# EAGLE library part 19428-0014 (library 19428-0014)
Molex MX150L Series, Series Number 19429, 5.84mm Pitch 10 Way 2 Row Straight PCB Header, Solder Termination, 18A Source: Datasheet <https://www.molex.com/pdm_docs/sd/194280014_sd.pdf>
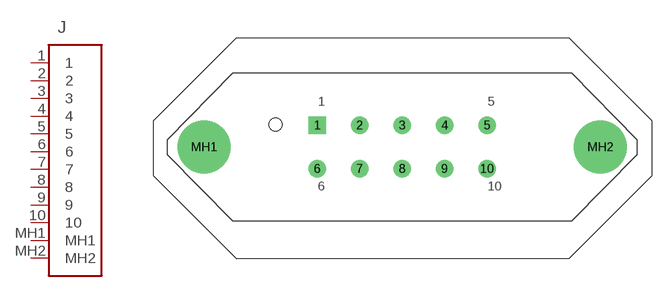
[diagram p0: symbol with the pads of 194280014; footprint 194280014]

Designator prefix J

## 19428-0014 (DESCRIPTION: Molex MX150L Series, Series Number 19429, 5.84mm Pitch 10 Way 2 Row Straight PCB Header, Solder Termination, 18A; HEIGHT: 27.79mm; MANUFACTURER_NAME: Molex; MANUFACTURER_PART_NUMBER: 19428-0014; MOUSER_PART_NUMBER: 538-19428-0014; MOUSER_PRICE-STOCK: https://www.mouser.co.uk/ProductDetail/Molex/19428-0014?qs=%252BFxTTVpkjY5jOvOVrS0rEw%3D%3D)  [194280014]
1  1
2  2
3  3
4  4
5  5
6  6
7  7
8  8
9  9
10  10
MH1  MH1
MH2  MH2

## Footprint 194280014 (pad centres in mm)
19428-0014
drill 1.6 pad 2.4 square: 1 -11.748,3.175
drill 1.6 pad 2.4: 2 -5.907,3.175; 3 -0.068,3.175; 4 5.772,3.175; 5 11.613,3.175; 6 -11.748,-2.815; 7 -5.907,-2.815; 8 -0.068,-2.815; 9 5.772,-2.815; 10 11.613,-2.815
drill 4.86 pad 7.29: MH1 -27.358,0.18; MH2 27.253,0.18
hole 1.778 at -17.526,3.302